# EAGLE library part PINHEAD-16 (library BaseApp)
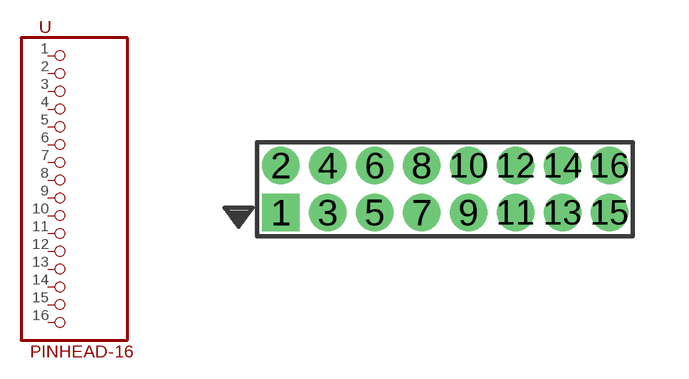
[diagram p132: symbol with the pads of PINHEAD-2X8-1.27MM; footprint PINHEAD-2X8-1.27MM]

Designator prefix -

## PINHEAD-16-2X8_1.27MM, PINHEAD-16NHD-0220FZ-FSW-GBW-P-33V3-2X8_1.27MM (DIGIKEY: NHD-0220FZ-FSW-GBW-P-33V3-ND; PRICE_PER_UNIT: 10.9)  [PINHEAD-2X8-1.27MM]
1  1  pas
2  2  pas
3  3  pas
4  4  pas
5  5  pas
6  6  pas
7  7  pas
8  8  pas
9  9  pas
10  10  pas
11  11  pas
12  12  pas
13  13  pas
14  14  pas
15  15  pas
16  16  pas

## Footprint PINHEAD-2X8-1.27MM (pad centres in mm)
drill 0.5 square: 1 -5.08,-0.635
drill 0.5: 2 -5.08,0.635; 3 -3.81,-0.635; 4 -3.81,0.635; 5 -2.54,-0.635; 6 -2.54,0.635; 7 -1.27,-0.635; 8 -1.27,0.635; 9 0,-0.635; 10 0,0.635; 11 1.27,-0.635; 12 1.27,0.635; 13 2.54,-0.635; 14 2.54,0.635; 15 3.81,-0.635; 16 3.81,0.635